# Altium footprint library Antenna.PcbLib: 3 footprints
Each footprint in its own frame and in the unit in brackets; x right, y up, seen from the top. Pads: shape width x height; smd on the part's side, far side on the other; paste and mask are expansions set on the pad; w line width, h text height; cw(c..) or ccw(c..) is an arc to the next point about the centre after c.
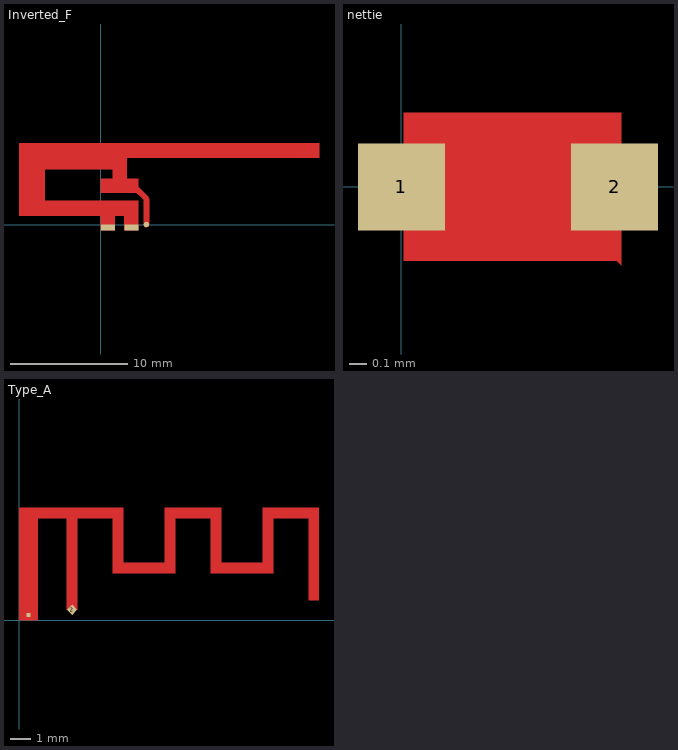
[diagram p0: the footprints below, top view; thin cyan lines are the x and y axes]

## Inverted_F [mm]
pads (3):
  rect 1.2x0.5 smd: 1(0.6,-0.25) 2(2.6,-0.25)
  round 0.46 smd: 3(3.88,0)
Top Layer:
  region: 2.817,2.927 3.65,2.095 3.65,0 3.65,-0.046 3.685,-0.13 3.749,-0.195 3.834,-0.23 3.926,-0.23 4.01,-0.195 4.075,-0.13 4.11,-0.046 4.11,0 4.11,2.19 4.11,2.213 4.101,2.257 4.084,2.3 4.059,2.337 4.042,2.353 4.043,2.353 3.143,3.253 3.11,3.285 3.026,3.32 2.934,3.32 2.85,3.285 2.785,3.22 2.75,3.136 2.75,3.044 2.785,2.959
  region: -4.8,2.03 -4.8,4.7 1,4.7 1,3.9 0,3.9 0,2.69 3.2,2.69 3.2,3.9 2.2,3.9 2.2,5.7 18.6,5.7 18.6,6.91 -6.98,6.91 -6.98,0.74 0,0.74 0,-0.5 1.2,-0.5 1.2,0.74 2,0.74 2,-0.5 3.2,-0.5 3.2,2.03
  lines w0.46: 2.98,3.14 2.98,3.09 3.88,2.19 3.88,0

## nettie [mm]
pads (2):
  rect 0.5x0.5 smd: 1(0,0) 2(1.225,0)
Top Layer:
  region: 0.012,-0.425 0.012,0.425 1.262,0.425 1.262,-0.45 1.237,-0.425

## Type_A [mm]
pads (2):
  rect 0.2x0.2 smd mask+0: 1(0.45,0.25)
  rect 0.353x0.353 smd rot 45 mask+0: 2(2.55,0.5)
Top Layer:
  region: 0,0 0.9,0 0.9,4.9 2.3,4.9 2.3,0.5 2.8,0.5 2.8,4.9 4.5,4.9 4.5,2.26 7.5,2.26 7.5,4.9 9.2,4.9 9.2,2.26 12.2,2.26 12.2,4.9 13.9,4.9 13.9,0.96 14.4,0.96 14.4,5.4 11.7,5.4 11.7,2.76 9.7,2.76 9.7,5.4 7,5.4 7,2.76 5,2.76 5,5.4 0,5.4